# Altium footprint library IPC-SM-782 Section 9.5 CFP.PcbLib: 17 footprints (part 2 of 2)
Each footprint in its own frame and in the unit in brackets; x right, y up, seen from the top. Pads: shape width x height; smd on the part's side, far side on the other; paste and mask are expansions set on the pad; w line width, h text height; cw(c..) or ccw(c..) is an arc to the next point about the centre after c.
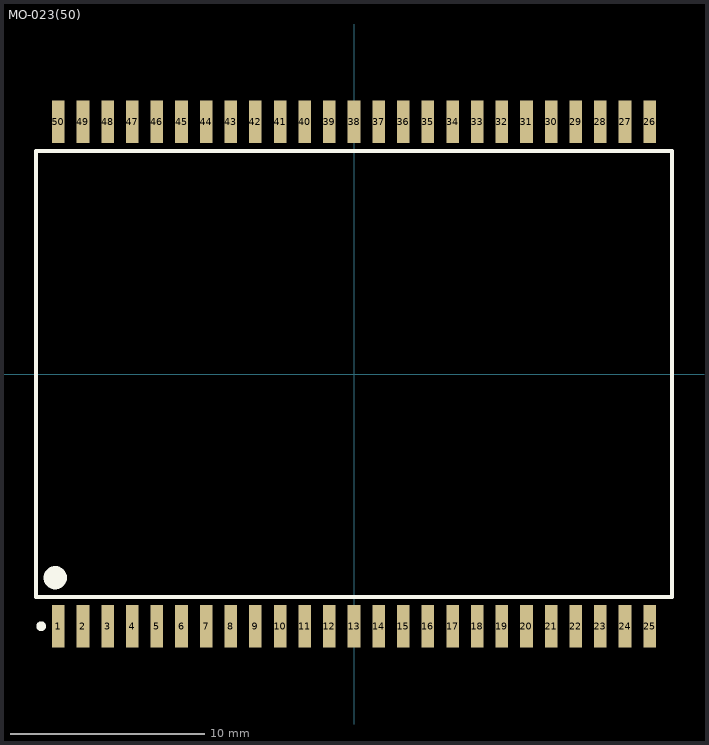
[diagram p1: the footprint, top view; thin cyan lines are the x and y axes]

## MO-023(50) [mm] "DFP; 50 Leads; Body 32.8 x 22.9 mm (LxW max); Pitch 1.27 mm"
height 3
pads (50):
  rect 0.65x2.2 smd: 1(-15.24,-13) 2(-13.97,-13) 3(-12.7,-13) 4(-11.43,-13) 5(-10.16,-13) 6(-8.89,-13) 7(-7.62,-13) 8(-6.35,-13) 9(-5.08,-13) 10(-3.81,-13) 11(-2.54,-13) 12(-1.27,-13) 13(0,-13) 14(1.27,-13) 15(2.54,-13) 16(3.81,-13) 17(5.08,-13) 18(6.35,-13) 19(7.62,-13) 20(8.89,-13) 21(10.16,-13) 22(11.43,-13) 23(12.7,-13) 24(13.97,-13) 25(15.24,-13) 26(15.24,13) 27(13.97,13) 28(12.7,13) 29(11.43,13) 30(10.16,13) 31(8.89,13) 32(7.62,13) 33(6.35,13) 34(5.08,13) 35(3.81,13) 36(2.54,13) 37(1.27,13) 38(0,13) 39(-1.27,13) 40(-2.54,13) 41(-3.81,13) 42(-5.08,13) 43(-6.35,13) 44(-7.62,13) 45(-8.89,13) 46(-10.16,13) 47(-11.43,13) 48(-12.7,13) 49(-13.97,13) 50(-15.24,13)
Top Overlay:
  circle w0.6: c-15.4,-10.5 r0.3
  circle w0.25: c-16.125,-13 r0.125
  lines w0.2: -16.4,-11.5 16.4,-11.5 16.4,11.5 -16.4,11.5 -16.4,-0.635 -16.4,-11.5